# Altium footprint library PcbLib.PcbLib: 38 footprints (part 1 of 3)
Each footprint in its own frame and in the unit in brackets; x right, y up, seen from the top. Pads: shape width x height; smd on the part's side, far side on the other; paste and mask are expansions set on the pad; w line width, h text height; cw(c..) or ccw(c..) is an arc to the next point about the centre after c.
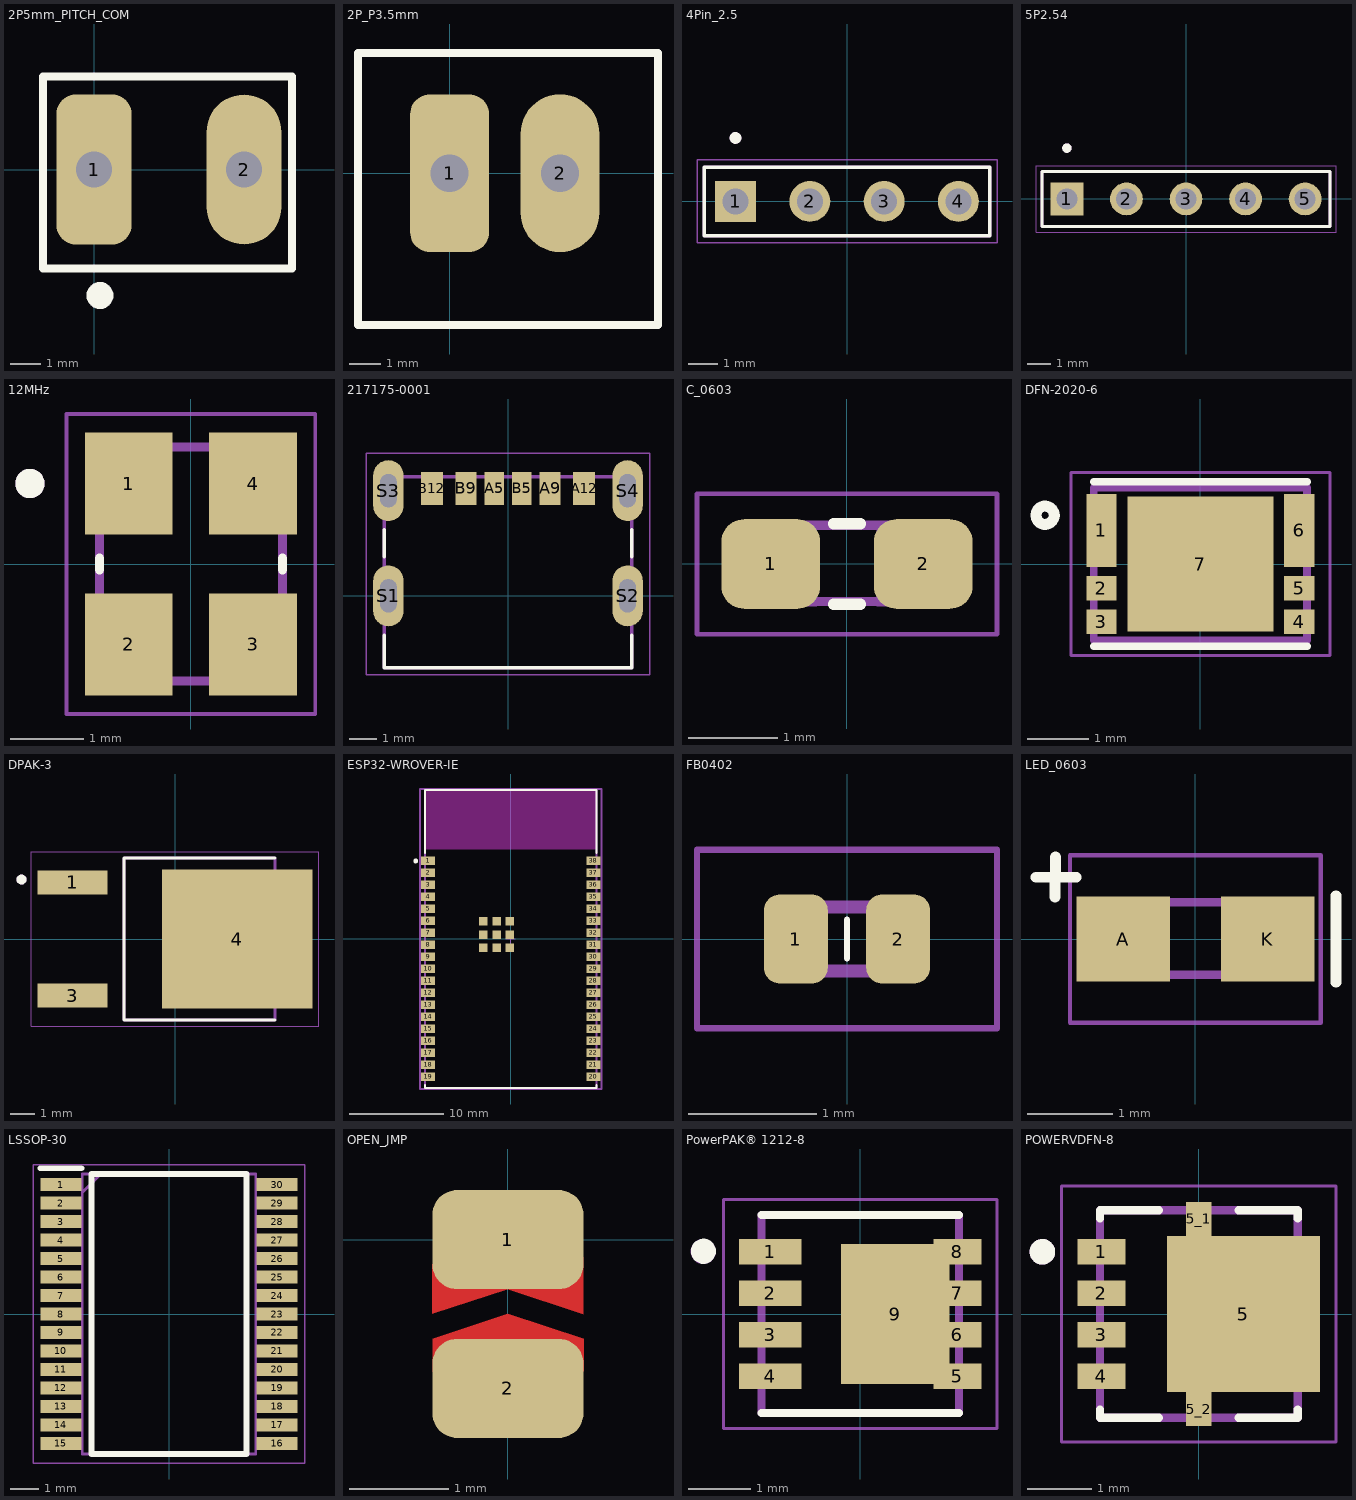
[diagram p0: the footprints below, top view; thin cyan lines are the x and y axes]

## 2P5mm_PITCH_COM [mm]
pads (2):
  rrect50% 2.5x5 hole 1.2: 1(0,0)
  oval 2.5x5 hole 1.2: 2(5,0)
Top Overlay:
  circle w0.5: c0.2,-4.2 r0.2
  lines w0.254: -1.7,-3.3 -1.7,3.1 6.6,3.1 6.6,-3.3 -1.7,-3.3

## 2P_P3.5mm [mm]
pads (2):
  rrect50% 2.5x5 hole 1.2: 1(0,0)
  oval 2.5x5 hole 1.2: 2(3.5,0)
Top Overlay:
  lines w0.254: -2.9,-4.8 6.6,-4.8 6.6,3.8 -2.9,3.8 -2.9,-4.8
3D body "53258-0229.stp": height 11.25, standoff -2.75, extent -2.7,-4.625 6.4,3.625

## 4Pin_2.5 [mil]
pads (4):
  rect 55x55 hole 35: 1(-150,0)
  round 55 hole 35: 2(-50,0) 3(50,0) 4(150,0)
Top Overlay:
  circle w7.87: c-150,85.43 r3.94
  lines w5: -192.01,-46.06 -192.01,46.06 192.01,46.06 192.01,-46.06 -192.01,-46.06
Mechanical 13:
  circle w7.87: c-150,85.43 r3.94
  lines w5: -192.01,-46.06 -192.01,46.06 192.01,46.06 192.01,-46.06 -192.01,-46.06
Mechanical 15:
  lines w1.97: -201.85,-55.91 -201.85,55.91 201.85,55.91 201.85,-55.91 -201.85,-55.91
3D body "87224-4.STEP": height 396.74, standoff -136.26, extent -192.98,-40.35 191.02,51.65

## 5P2.54 [mil]
pads (5):
  rect 55x55 hole 35: 1(-200,0)
  round 55 hole 35: 2(-100,0) 3(0,0) 4(100,0) 5(200,0)
Top Overlay:
  circle w7.87: c-200,85.43 r3.94
  lines w5: -242.01,-46.06 -242.01,46.06 242.01,46.06 242.01,-46.06 -242.01,-46.06
Mechanical 13:
  circle w7.87: c-200,85.43 r3.94
  lines w5: -242.01,-46.06 -242.01,46.06 242.01,46.06 242.01,-46.06 -242.01,-46.06
Mechanical 15:
  lines w1.97: -251.85,-55.91 -251.85,55.91 251.85,55.91 251.85,-55.91 -251.85,-55.91
3D body "5P2.54.STEP": height 108.7, standoff -424.3, extent -242,-46 242,46

## 12MHz [mm]
pads (4):
  rect 1.2x1.4 smd: 1(-0.85,1.1) 2(-0.85,-1.1) 3(0.85,-1.1) 4(0.85,1.1)
Top Overlay:
  circle w0.2: c-2.2,1.1 r0.1
  lines w0.127: -1.25,-0.08 -1.25,0.08 ; 1.25,-0.08 1.25,0.08
Mechanical 13:
  circle w0.2: c-2.2,1.1 r0.1
  lines w0.127: -1.25,-1.6 1.25,-1.6 1.25,1.6 -1.25,1.6 -1.25,-1.6
Mechanical 15:
  lines w0.05: -1.7,-2.05 1.7,-2.05 1.7,2.05 -1.7,2.05 -1.7,-2.05
3D body "ABM8G-12.000MHZ-18.STEP": height 0.99, standoff 0, extent -1.245,-1.6 1.245,1.6

## 217175-0001 [mm]
pads (10):
  rect 0.7x1.2 smd: A5(-0.5,3.88) B5(0.5,3.88)
  rect 0.76x1.2 smd: A9(1.52,3.88) B9(-1.52,3.88)
  rect 0.8x1.2 smd: A12(2.75,3.88) B12(-2.75,3.88)
  oval 1.1x2.2 hole 0.6 slot 1.2 at 90 deg: S1(-4.32,0) S2(4.32,0) S3(-4.32,3.8) S4(4.32,3.8)
Top Overlay:
  lines w0.127: -4.47,-1.42 -4.47,-2.6 4.47,-2.6 4.47,-1.42 ; -4.47,1.42 -4.47,2.38 ; 4.47,1.42 4.47,2.38
Mechanical 13:
  lines w0.127: -4.47,-2.6 -4.47,4.3 4.47,4.3 4.47,-2.6 -4.47,-2.6
Mechanical 15:
  lines w0.05: -5.12,-2.85 5.12,-2.85 5.12,5.15 -5.12,5.15 -5.12,-2.85
3D body "2171750001--3DModel-STEP-56544.STEP": height 3.26, standoff -1.9, extent -4.47,-2.6 4.47,4.3

## C_0603 [mm]
pads (2):
  rrect50% 1.1x1 smd: 1(-0.85,0) 2(0.85,0)
Top Overlay:
  lines w0.127: -0.15,-0.45 0.15,-0.45 ; -0.15,0.45 0.15,0.45
Mechanical 13:
  region: -0.338,-0.47 -0.839,-0.47 -0.839,0.48 -0.338,0.48
  region: 0.83,-0.471 0.331,-0.471 0.331,0.48 0.83,0.48
  lines w0.102: -0.356,-0.419 0.356,-0.419 ; -0.356,0.432 0.356,0.432
Mechanical 15:
  lines w0.051: -1.673,-0.783 1.673,-0.783 1.673,0.783 -1.673,0.783 -1.673,-0.783
3D body "C0603.STEP": height 0.76, standoff -0.04, extent -0.85,-0.42 0.75,0.45

## DFN-2020-6 [mm]
pads (7):
  rect 0.5x1.2 smd: 1(-1.625,0.55) 6(1.625,0.55)
  rect 0.5x0.4 smd: 2(-1.625,-0.4) 3(-1.625,-0.95) 4(1.625,-0.95) 5(1.625,-0.4)
  rect 2.4x2.21 smd paste-2: 7(0,0)
Top Overlay:
  circle w0.18: c-2.55,0.8 r0.15
  lines w0.127: -1.75,-1.35 1.75,-1.35 ; -1.75,1.35 1.75,1.35
Top Paste:
  region: -0.11,-0.88 -0.97,-0.88 -0.97,-0.11 -0.11,-0.11
  region: 0.97,-0.88 0.11,-0.88 0.11,-0.11 0.97,-0.11
  region: -0.11,0.11 -0.97,0.11 -0.97,0.88 -0.11,0.88
  region: 0.97,0.11 0.11,0.11 0.11,0.88 0.97,0.88
Mechanical 13:
  lines w0.127: -1.75,-1.25 -1.75,1.25 1.75,1.25 1.75,-1.25 -1.75,-1.25
Mechanical 15:
  lines w0.05: -2.125,-1.5 -2.125,1.5 2.125,1.5 2.125,-1.5 -2.125,-1.5
3D body "step_temp.STEP": height 0.6, standoff 0, extent -1.75,-1.25 1.75,1.25

## DPAK-3 [mm]
pads (3):
  rect 2.83x0.97 smd: 1(-4.14,2.29) 3(-4.14,-2.29)
  rect 6.09x5.63 smd paste-4: 4(2.51,0)
Top Overlay:
  circle w0.2: c-6.2,2.4 r0.1
  lines w0.127: 4.03,-3.27 -2.065,-3.27 -2.065,3.27 4.03,3.27
Top Paste:
  region: 1.135,-2.28 -0.175,-2.28 -0.175,-0.54 1.135,-0.54
  region: 5.195,-2.28 3.885,-2.28 3.885,-0.54 5.195,-0.54
  region: 5.195,0.54 3.885,0.54 3.885,2.28 5.195,2.28
  region: 1.135,0.54 -0.175,0.54 -0.175,2.28 1.135,2.28
  region: 3.165,-2.28 1.855,-2.28 1.855,-0.54 3.165,-0.54
  region: 3.165,0.54 1.855,0.54 1.855,2.28 3.165,2.28
Mechanical 13:
  circle w0.2: c-6.2,2.4 r0.1
  lines w0.127: -2.065,-3.27 4.03,-3.27 4.03,3.27 -2.065,3.27 -2.065,-3.27
Mechanical 15:
  lines w0.05: -5.81,-3.52 5.81,-3.52 5.81,3.52 -5.81,3.52 -5.81,-3.52
3D body "DPAK-3.STEP": height 2.39, standoff -0.13, extent -5.103,-3.25 4.803,3.25

## ESP32-WROVER-IE [mm]
pads (47):
  rect 1.5x0.9 smd paste+0 mask+0: 1(-8.75,8.26) 2(-8.75,6.99) 3(-8.75,5.72) 4(-8.75,4.45) 5(-8.75,3.18) 6(-8.75,1.91) 7(-8.75,0.64) 8(-8.75,-0.63) 9(-8.75,-1.9) 10(-8.75,-3.17) 11(-8.75,-4.44) 12(-8.75,-5.71) 13(-8.75,-6.98) 14(-8.75,-8.25) 15(-8.75,-9.52) 16(-8.75,-10.79) 17(-8.75,-12.06) 18(-8.75,-13.33) 19(-8.75,-14.6) 20(8.75,-14.6) 21(8.75,-13.33) 22(8.75,-12.06) 23(8.75,-10.79) 24(8.75,-9.52) 25(8.75,-8.25) 26(8.75,-6.98) 27(8.75,-5.71) 28(8.75,-4.44) 29(8.75,-3.17) 30(8.75,-1.9) 31(8.75,-0.63) 32(8.75,0.64) 33(8.75,1.91) 34(8.75,3.18) 35(8.75,4.45) 36(8.75,5.72) 37(8.75,6.99) 38(8.75,8.26)
  rect 0.9x0.9 smd paste+0 mask+0: 39(-2.9,-0.94) 39(-2.9,0.46) 39(-2.9,1.86) 39(-1.5,-0.94) 39(-1.5,0.46) 39(-1.5,1.86) 39(-0.1,-0.94) 39(-0.1,0.46) 39(-0.1,1.86)
Top Overlay:
  circle w0.25: c-10.05,8.26 r0.125
  lines w0.2: -9.075,-15.425 -9.075,-15.775 9.075,-15.775 9.075,-15.425 ; -9.075,9.085 -9.075,15.775 9.075,15.775 9.075,9.085
Keep-Out Layer:
  rectangle: -9,9.48 9,15.7
  rectangle: -9,9.48 9,15.7
Mechanical 10:
  lines w0.2: -9.6,-15.875 -9.6,15.875 9.6,15.875 9.6,-15.875 -9.6,-15.875
  text ".Designator" at 0,0.188 h1
Mechanical 12:
  lines w0.2: -9.075,-15.775 -9.075,15.775 9.075,15.775 9.075,-15.775 -9.075,-15.775
Mechanical 15:
  lines w0.1: -0.5,0 0.5,0 ; 0,-0.5 0,0.5
  lines w0.2: -9.6,-15.875 -9.6,15.875 9.6,15.875 9.6,-15.875 -9.6,-15.875
3D body "ESP32-WROVER-IE.STEP": height 3.45, standoff 0, extent -8.9,-15.7 9.1,15.7

## FB0402 [mm]
pads (2):
  rrect50% 0.5x0.7 smd: 1(-0.4,0) 2(0.4,0)
Top Overlay:
  lines w0.05: 0,-0.15 0,0.15
Mechanical 15:
  lines w0.1: -0.5,-0.25 0.5,-0.25 0.5,0.25 -0.5,0.25 -0.5,-0.25
Mechanical 20:
  lines w0.05: -1.175,-0.7 1.175,-0.7 1.175,0.7 -1.175,0.7 -1.175,-0.7
3D body "FB0402.stp": height 0.45, standoff -0.05, extent -0.475,-0.25 0.525,0.25

## LED_0603 [mm]
pads (2):
  rect 1.1x1 smd: A(-0.85,0) K(0.85,0)
Top Overlay:
  lines w0.127: -1.873,0.725 -1.4,0.725 ; -1.65,0.492 -1.643,0.964 ; 1.651,-0.508 1.651,0.508
Mechanical 13:
  region: 0.83,-0.47 0.33,-0.47 0.33,0.48 0.83,0.48
  region: -0.338,-0.47 -0.838,-0.47 -0.838,0.48 -0.338,0.48
  lines w0.102: -0.356,-0.419 0.356,-0.419 ; -0.356,0.432 0.356,0.432
Mechanical 15:
  lines w0.051: -1.473,-0.983 -1.473,0.983 1.473,0.983 1.473,-0.983 -1.473,-0.983
3D body "LED_0603.STEP": height 0.55, standoff 0, extent -0.825,-0.375 0.775,0.425

## LSSOP-30 [mm]
pads (30):
  rect 1.45x0.45 smd: 1(-3.8,4.55) 2(-3.8,3.9) 3(-3.8,3.25) 4(-3.8,2.6) 5(-3.8,1.95) 6(-3.8,1.3) 7(-3.8,0.65) 8(-3.8,0) 9(-3.8,-0.65) 10(-3.8,-1.3) 11(-3.8,-1.95) 12(-3.8,-2.6) 13(-3.8,-3.25) 14(-3.8,-3.9) 15(-3.8,-4.55) 16(3.8,-4.55) 17(3.8,-3.9) 18(3.8,-3.25) 19(3.8,-2.6) 20(3.8,-1.95) 21(3.8,-1.3) 22(3.8,-0.65) 23(3.8,0) 24(3.8,0.65) 25(3.8,1.3) 26(3.8,1.95) 27(3.8,2.6) 28(3.8,3.25) 29(3.8,3.9) 30(3.8,4.55)
Top Overlay:
  lines w0.2: -4.525,5.125 -3.075,5.125 ; -2.725,-4.925 -2.725,4.925 2.725,4.925 2.725,-4.925 -2.725,-4.925
Mechanical 15:
  lines w0.1: -3.05,4.275 -2.4,4.925 ; -3.05,-4.925 -3.05,4.925 3.05,4.925 3.05,-4.925 -3.05,-4.925
Mechanical 20:
  lines w0.05: -4.775,-5.25 -4.775,5.25 4.775,5.25 4.775,-5.25 -4.775,-5.25
3D body "LSSOP-30.stp": height 1.4, standoff 0, extent -4.05,-4.925 4.05,4.925

## OPEN_JMP [mm]
pads (2):
  rrect50% 1.524x1 smd: 1(0,0) 2(0,-1.5)
Top Layer:
  region: 0.761,-0.752 0.761,-0.177 -0.003,-0.177 -0.003,-0.5
  region: 0,-0.75 0,-1.325 0.764,-1.325 0.764,-1.002
  region: -0.003,-0.25 -0.003,-0.5 -0.763,-0.75 -0.763,-0.25
  region: -0.76,-1.325 -0.76,-1 0,-0.75 0,-1.325
Top Solder:
  region: -0.762,-0.5 -0.762,-0.501 -0.762,-1.019 0.762,-1.019 0.762,-0.494 -0.762,-0.494 -0.763,-0.495

## PowerPAK® 1212-8 [mm]
pads (9):
  rect 0.99x0.405 smd: 1(-1.435,0.99) 2(-1.435,0.33) 3(-1.435,-0.33) 4(-1.435,-0.99)
  rect 0.76x0.405 smd: 5(1.55,-0.99) 6(1.55,-0.33) 7(1.55,0.33) 8(1.55,0.99)
  rect 1.725x2.235 smd: 9(0.557,0)
Top Overlay:
  circle w0.2: c-2.5,1 r0.1
  lines w0.127: -1.575,-1.575 1.575,-1.575 ; -1.575,1.575 1.575,1.575
Mechanical 13:
  circle w0.2: c-2.502,0.997 r0.1
  lines w0.127: -1.575,-1.575 -1.575,1.575 1.575,1.575 1.575,-1.575 -1.575,-1.575
Mechanical 15:
  lines w0.05: -2.18,-1.825 -2.18,1.825 2.18,1.825 2.18,-1.825 -2.18,-1.825
3D body "PowerPAK® 1212-8.STEP": height 1.12, standoff 0, extent -1.65,-1.625 1.65,1.675

## POWERVDFN-8 [mm]
pads (7):
  rect 0.75x0.4 smd: 1(-1.525,0.975) 2(-1.525,0.325) 3(-1.525,-0.325) 4(-1.525,-0.975)
  rect 2.4x2.45 smd paste-2: 5(0.7,0)
  rect 0.4x0.53 smd: 5_1(0,1.49) 5_2(0,-1.49)
Top Overlay:
  circle w0.2: c-2.45,0.975 r0.1
  lines w0.127: -1.55,-1.495 -1.55,-1.625 -0.62,-1.625 ; -1.55,1.495 -1.55,1.625 -0.62,1.625 ; 0.62,-1.625 1.55,-1.625 1.55,-1.495 ; 0.62,1.625 1.55,1.625 1.55,1.495
Top Paste:
  region: 1.46,-0.775 -0.06,-0.775 -0.06,0.775 1.46,0.775
Top Solder:
  region: 0.3,-1.855 -0.3,-1.855 -0.3,1.855 0.3,1.855
Mechanical 13:
  circle w0.2: c-2.45,0.975 r0.1
  lines w0.127: -1.55,-1.625 1.55,-1.625 1.55,1.625 -1.55,1.625 -1.55,-1.625
Mechanical 15:
  lines w0.05: -2.15,-2.005 -2.15,2.005 2.15,2.005 2.15,-2.005 -2.15,-2.005
3D body "POWERVDFN-8 .STEP": height 0.9, standoff 0, extent -1.25,-1.65 2.05,1.65